# Altium footprint library USR-K3.PcbLib: 1 footprints
Each footprint in its own frame and in the unit in brackets; x right, y up, seen from the top. Pads: shape width x height; smd on the part's side, far side on the other; paste and mask are expansions set on the pad; w line width, h text height; cw(c..) or ccw(c..) is an arc to the next point about the centre after c.
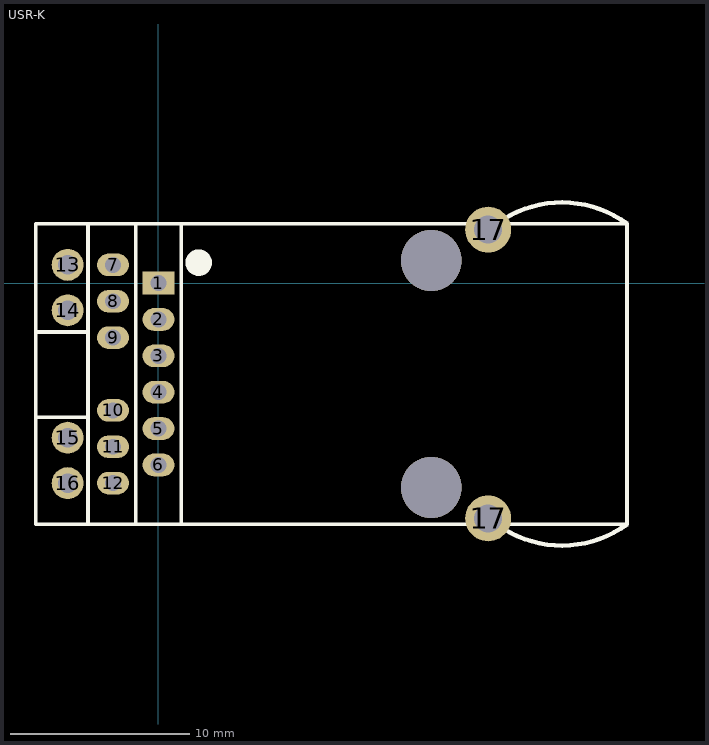
[diagram p0: the footprint, top view; thin cyan lines are the x and y axes]

## USR-K [mil]
pads (18):
  rect 70x50 hole 35: 1(0,0)
  oval 70x50 hole 35: 2(0,-80) 3(0,-160) 4(0,-240) 5(0,-320) 6(0,-400) 7(-100,40) 8(-100,-40) 9(-100,-120) 10(-100,-280) 11(-100,-360) 12(-100,-440)
  round 70 hole 43: 13(-200,40) 14(-200,-60) 15(-200,-340) 16(-200,-440)
  round 101.18 hole 61.81: 17(725,-517.5) 17(725,117.5)
via 600,50 diameter 133.86 hole 133.86
via 600,-450 diameter 133.86 hole 133.86
Top Overlay:
  circle w30: c88.46,45 r14.14
  lines w8: -269.8,130.71 -269.69,-530.71 1030.32,-530.71 1030.32,130.71 -269.69,130.71 ; -265,-294.96 -160,-294.96 ; -264.61,-107.52 -154.8,-107.52 ; -155,-530.71 -155,130.71 ; -50,-530.71 -50,130.71 ; 50.2,-527.52 50.2,127.48
  lines w10: 745.89,-531.67 ccw(c887.44,-334.92) 1030.31,-530.71 ; 745.89,131.67 cw(c887.44,-65.08) 1030.32,130.71